# EAGLE library part STM32F429-LQFP144 (library ell-i)
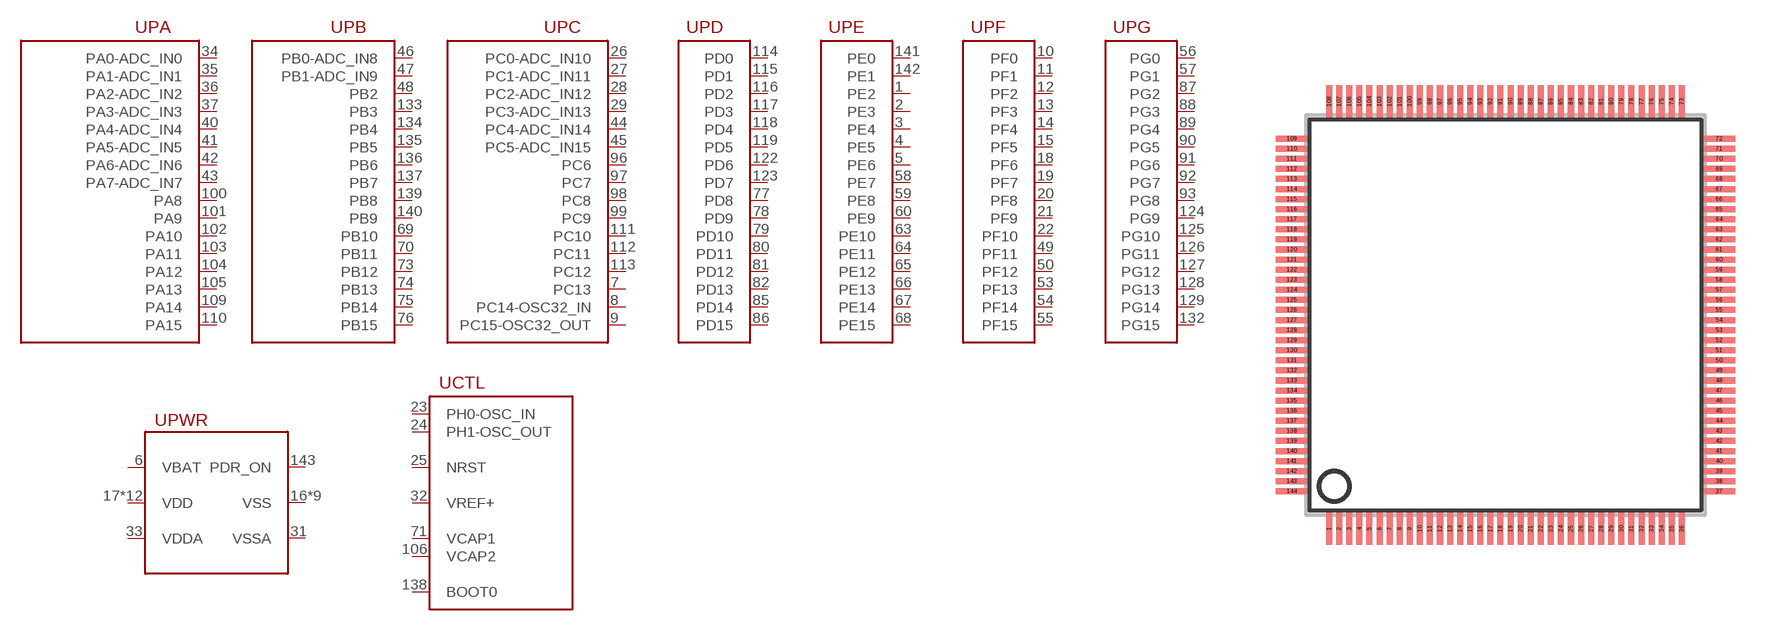
[diagram p14: symbol with the pads of LQFP144; footprint LQFP144]

Designator prefix U; gates PA=STM32-PA PB=STM32-PB PC=STM32-PC PD=STM32-PD PE=STM32-PE PWR=STM32F4XX-PWR-2 CTL=STMF4XX-100-CTL PF=STM32-PF PG=STM32-PG

## STM32F429-LQFP144  [LQFP144]
1  PE:PE2
2  PE:PE3
3  PE:PE4
4  PE:PE5
5  PE:PE6
6  PWR:VBAT  pwr
7  PC:PC13
8  PC:PC14-OSC32_IN
9  PC:PC15-OSC32_OUT
10  PF:PF0
11  PF:PF1
12  PF:PF2
13  PF:PF3
14  PF:PF4
15  PF:PF5
16  PWR:VSS  pwr
17  PWR:VDD  pwr
18  PF:PF6
19  PF:PF7
20  PF:PF8
21  PF:PF9
22  PF:PF10
23  CTL:PH0-OSC_IN
24  CTL:PH1-OSC_OUT
25  CTL:NRST
26  PC:PC0-ADC_IN10
27  PC:PC1-ADC_IN11
28  PC:PC2-ADC_IN12
29  PC:PC3-ADC_IN13
30  PWR:VDD  pwr
31  PWR:VSSA  pwr
32  CTL:VREF+
33  PWR:VDDA  pwr
34  PA:PA0-ADC_IN0
35  PA:PA1-ADC_IN1
36  PA:PA2-ADC_IN2
37  PA:PA3-ADC_IN3
38  PWR:VSS  pwr
39  PWR:VDD  pwr
40  PA:PA4-ADC_IN4
41  PA:PA5-ADC_IN5
42  PA:PA6-ADC_IN6
43  PA:PA7-ADC_IN7
44  PC:PC4-ADC_IN14
45  PC:PC5-ADC_IN15
46  PB:PB0-ADC_IN8
47  PB:PB1-ADC_IN9
48  PB:PB2
49  PF:PF11
50  PF:PF12
51  PWR:VSS  pwr
52  PWR:VDD  pwr
53  PF:PF13
54  PF:PF14
55  PF:PF15
56  PG:PG0
57  PG:PG1
58  PE:PE7
59  PE:PE8
60  PE:PE9
61  PWR:VSS  pwr
62  PWR:VDD  pwr
63  PE:PE10
64  PE:PE11
65  PE:PE12
66  PE:PE13
67  PE:PE14
68  PE:PE15
69  PB:PB10
70  PB:PB11
71  CTL:VCAP1
72  PWR:VDD  pwr
73  PB:PB12
74  PB:PB13
75  PB:PB14
76  PB:PB15
77  PD:PD8
78  PD:PD9
79  PD:PD10
80  PD:PD11
81  PD:PD12
82  PD:PD13
83  PWR:VSS  pwr
84  PWR:VDD  pwr
85  PD:PD14
86  PD:PD15
87  PG:PG2
88  PG:PG3
89  PG:PG4
90  PG:PG5
91  PG:PG6
92  PG:PG7
93  PG:PG8
94  PWR:VSS  pwr
95  PWR:VDD  pwr
96  PC:PC6
97  PC:PC7
98  PC:PC8
99  PC:PC9
100  PA:PA8
101  PA:PA9
102  PA:PA10
103  PA:PA11
104  PA:PA12
105  PA:PA13
106  CTL:VCAP2
107  PWR:VSS  pwr
108  PWR:VDD  pwr
109  PA:PA14
110  PA:PA15
111  PC:PC10
112  PC:PC11
113  PC:PC12
114  PD:PD0
115  PD:PD1
116  PD:PD2
117  PD:PD3
118  PD:PD4
119  PD:PD5
120  PWR:VSS  pwr
121  PWR:VDD  pwr
122  PD:PD6
123  PD:PD7
124  PG:PG9
125  PG:PG10
126  PG:PG11
127  PG:PG12
128  PG:PG13
129  PG:PG14
130  PWR:VSS  pwr
131  PWR:VDD  pwr
132  PG:PG15
133  PB:PB3
134  PB:PB4
135  PB:PB5
136  PB:PB6
137  PB:PB7
138  CTL:BOOT0
139  PB:PB8
140  PB:PB9
141  PE:PE0
142  PE:PE1
143  PWR:PDR_ON  in
144  PWR:VDD  pwr

## Footprint LQFP144 (pad centres in mm)
smd 0.3 x 1.6: 1 -8.75,-10.6; 2 -8.25,-10.6; 3 -7.75,-10.6; 4 -7.25,-10.6; 5 -6.75,-10.6; 6 -6.25,-10.6; 7 -5.75,-10.6; 8 -5.25,-10.6; 9 -4.75,-10.6; 10 -4.25,-10.6; 11 -3.75,-10.6; 12 -3.25,-10.6; 13 -2.75,-10.6; 14 -2.25,-10.6; 15 -1.75,-10.6; 16 -1.25,-10.6; 17 -0.75,-10.6; 18 -0.25,-10.6; 19 0.25,-10.6; 20 0.75,-10.6; 21 1.25,-10.6; 22 1.75,-10.6; 23 2.25,-10.6; 24 2.75,-10.6; 25 3.25,-10.6; 26 3.75,-10.6; 27 4.25,-10.6; 28 4.75,-10.6; 29 5.25,-10.6; 30 5.75,-10.6; 31 6.25,-10.6; 32 6.75,-10.6; 33 7.25,-10.6; 34 7.75,-10.6; 35 8.25,-10.6; 36 8.75,-10.6; 73 8.75,10.6; 74 8.25,10.6; 75 7.75,10.6; 76 7.25,10.6; 77 6.75,10.6; 78 6.25,10.6; 79 5.75,10.6; 80 5.25,10.6; 81 4.75,10.6; 82 4.25,10.6; 83 3.75,10.6; 84 3.25,10.6; 85 2.75,10.6; 86 2.25,10.6; 87 1.75,10.6; 88 1.25,10.6; 89 0.75,10.6; 90 0.25,10.6; 91 -0.25,10.6; 92 -0.75,10.6; 93 -1.25,10.6; 94 -1.75,10.6; 95 -2.25,10.6; 96 -2.75,10.6; 97 -3.25,10.6; 98 -3.75,10.6; 99 -4.25,10.6; 100 -4.75,10.6; 101 -5.25,10.6; 102 -5.75,10.6; 103 -6.25,10.6; 104 -6.75,10.6; 105 -7.25,10.6; 106 -7.75,10.6; 107 -8.25,10.6; 108 -8.75,10.6
smd 1.6 x 0.3: 37 10.6,-8.75; 38 10.6,-8.25; 39 10.6,-7.75; 40 10.6,-7.25; 41 10.6,-6.75; 42 10.6,-6.25; 43 10.6,-5.75; 44 10.6,-5.25; 45 10.6,-4.75; 46 10.6,-4.25; 47 10.6,-3.75; 48 10.6,-3.25; 49 10.6,-2.75; 50 10.6,-2.25; 51 10.6,-1.75; 52 10.6,-1.25; 53 10.6,-0.75; 54 10.6,-0.25; 55 10.6,0.25; 56 10.6,0.75; 57 10.6,1.25; 58 10.6,1.75; 59 10.6,2.25; 60 10.6,2.75; 61 10.6,3.25; 62 10.6,3.75; 63 10.6,4.25; 64 10.6,4.75; 65 10.6,5.25; 66 10.6,5.75; 67 10.6,6.25; 68 10.6,6.75; 69 10.6,7.25; 70 10.6,7.75; 71 10.6,8.25; 72 10.6,8.75; 109 -10.6,8.75; 110 -10.6,8.25; 111 -10.6,7.75; 112 -10.6,7.25; 113 -10.6,6.75; 114 -10.6,6.25; 115 -10.6,5.75; 116 -10.6,5.25; 117 -10.6,4.75; 118 -10.6,4.25; 119 -10.6,3.75; 120 -10.6,3.25; 121 -10.6,2.75; 122 -10.6,2.25; 123 -10.6,1.75; 124 -10.6,1.25; 125 -10.6,0.75; 126 -10.6,0.25; 127 -10.6,-0.25; 128 -10.6,-0.75; 129 -10.6,-1.25; 130 -10.6,-1.75; 131 -10.6,-2.25; 132 -10.6,-2.75; 133 -10.6,-3.25; 134 -10.6,-3.75; 135 -10.6,-4.25; 136 -10.6,-4.75; 137 -10.6,-5.25; 138 -10.6,-5.75; 139 -10.6,-6.25; 140 -10.6,-6.75; 141 -10.6,-7.25; 142 -10.6,-7.75; 143 -10.6,-8.25; 144 -10.6,-8.75